# EAGLE library part TPS63061DSCR (library max639csa _5V)
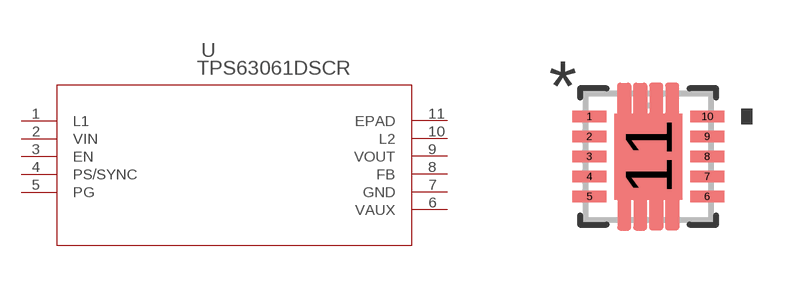
[diagram p0: symbol with the pads of DSC10_1P70X2P15; footprint DSC10_1P70X2P15]

Designator prefix U

## TPS63061DSCR (MANUFACTURER_PART_NUMBER: TPS63061DSCR; VENDOR: Texas Instruments)  [DSC10_1P70X2P15]
1  L1  in
2  VIN  in
3  EN  in
4  PS/SYNC  in
5  PG  out
6  VAUX  pas
7  GND  pwr
8  FB  in
9  VOUT  out
10  L2  in
11  EPAD  pas

## Footprint DSC10_1P70X2P15 (pad centres in mm)
smd 0.85 x 0.28: 1 -1.475,1; 2 -1.475,0.5; 3 -1.475,0; 4 -1.475,-0.5; 5 -1.475,-1; 6 1.475,-1; 7 1.475,-0.5; 8 1.475,0; 9 1.475,0.5; 10 1.475,1
smd 1.7 x 2.15: 11 0,0